# EAGLE library part ADN4650 (library analog-devices)
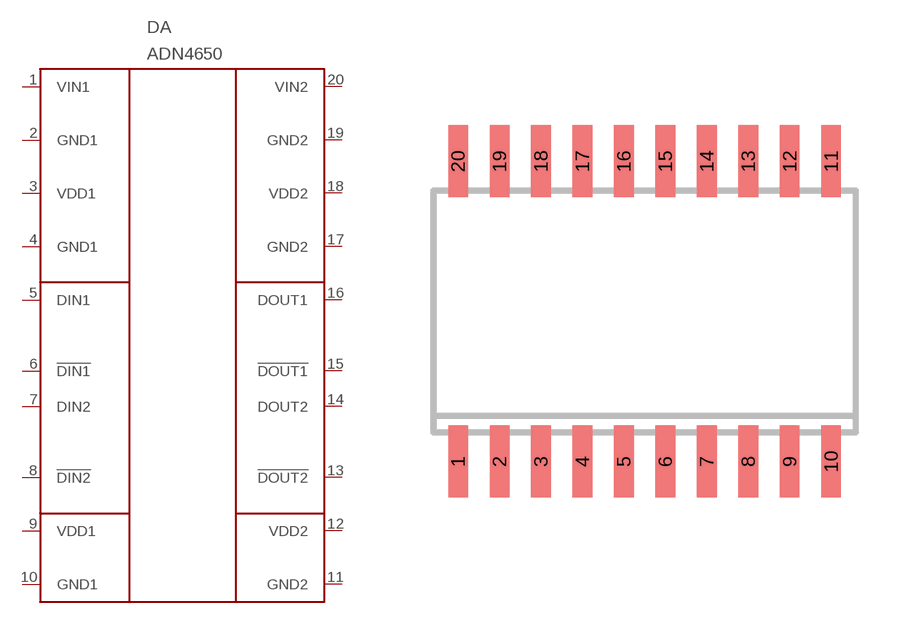
[diagram p1: symbol with the pads of SO20W; footprint SO20W]

Designator prefix DA

## ADN4650  [SO20W]
1  VIN1  pwr
2  GND1  pwr
3  VDD1  pwr
4  GND1  pwr
5  DIN1  in
6  !DIN1  in
7  DIN2  in
8  !DIN2  in
9  VDD1  pwr
10  GND1  pwr
11  GND2  pwr
12  VDD2  pwr
13  !DOUT2  out
14  DOUT2  out
15  !DOUT1  out
16  DOUT1  out
17  GND2  pwr
18  VDD2  pwr
19  GND2  pwr
20  VIN2  pwr

## Footprint SO20W (pad centres in mm)
SMALL OUTLINE INTEGRATED CIRCUIT wide body 7.5 mm/JEDEC MS-013AC
smd 0.6 x 2.2: 1 -5.715,-4.6; 2 -4.445,-4.6; 3 -3.175,-4.6; 4 -1.905,-4.6; 5 -0.635,-4.6; 6 0.635,-4.6; 7 1.905,-4.6; 8 3.175,-4.6; 9 4.445,-4.6; 10 5.715,-4.6; 11 5.715,4.6; 12 4.445,4.6; 13 3.175,4.6; 14 1.905,4.6; 15 0.635,4.6; 16 -0.635,4.6; 17 -1.905,4.6; 18 -3.175,4.6; 19 -4.445,4.6; 20 -5.715,4.6